# Altium footprint library bluetooth.PCBLIB: 1 footprints
Each footprint in its own frame and in the unit in brackets; x right, y up, seen from the top. Pads: shape width x height; smd on the part's side, far side on the other; paste and mask are expansions set on the pad; w line width, h text height; cw(c..) or ccw(c..) is an arc to the next point about the centre after c.
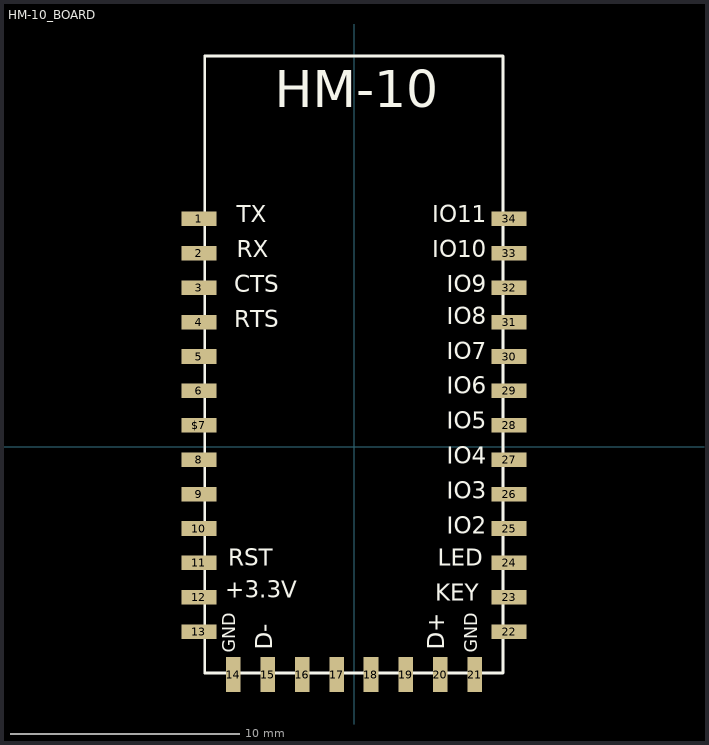
[diagram p0: the footprint, top view; thin cyan lines are the x and y axes]

## HM-10_BOARD [mil]
pads (34):
  rect 60x25 smd: 1(-266.14,391.24) 2(-266.14,332.19) 3(-266.14,273.13) 4(-266.14,214.07) 5(-266.14,155.02) 6(-266.14,95.96) 8(-266.14,-22.15) 9(-266.14,-81.2) 10(-266.14,-140.26) 11(-266.14,-199.31) 12(-266.14,-258.37) 13(-266.14,-317.42) 22(266.14,-317.42) 23(266.14,-258.37) 24(266.14,-199.31) 25(266.14,-140.26) 26(266.14,-81.2) 27(266.14,-22.15) 28(266.14,36.91) 29(266.14,95.96) 30(266.14,155.02) 31(266.14,214.07) 32(266.14,273.13) 33(266.14,332.19) 34(266.14,391.24) $7(-266.14,36.91)
  rect 25x60 smd: 14(-207.08,-391.24) 15(-148.03,-391.24) 16(-88.97,-391.24) 17(-29.92,-391.24) 18(29.14,-391.24) 19(89.14,-391.24) 20(148.14,-391.24) 21(207.14,-391.24)
Top Overlay:
  lines w5: -256.3,-388.29 256.14,-388.29 256.14,671.24 -256.3,671.24 -256.3,-388.29
  text "TX" at -200.86,376.24 h49.6
  text "RX" at -200.86,316.24 h49.6
  text "CTS" at -205.86,256.24 h49.6
  text "RTS" at -205.86,196.24 h49.6
  text "RST" at -215.86,-213.76 h49.6
  text "+3.3V" at -220.86,-268.76 h49.6
  text "GND" at -195.86,-353.76 h37.2
  text "D-" at -130.86,-348.76 h49.6
  text "D+" at 164.14,-348.76 h49.6
  text "GND" at 219.14,-353.76 h37.2
  text "KEY" at 139.14,-273.76 h49.6
  text "LED" at 144.14,-213.76 h49.6
  text "IO2" at 159.14,-158.76 h49.6
  text "IO3" at 159.14,-98.76 h49.6
  text "IO4" at 159.14,-38.76 h49.6
  text "IO5" at 159.14,21.24 h49.6
  text "IO6" at 159.14,81.24 h49.6
  text "IO7" at 159.14,141.24 h49.6
  text "IO8" at 159.14,201.24 h49.6
  text "IO9" at 159.14,256.24 h49.6
  text "IO10" at 134.14,316.24 h49.6
  text "IO11" at 134.14,376.24 h49.6
  text "HM-10" at -135.86,561.24 h108.5
3D body: height 95.5, standoff -0.37, extent -255.95,-387.06 255.94,672.03